# EAGLE library part OPTO4CHANLITEON (library mylib)
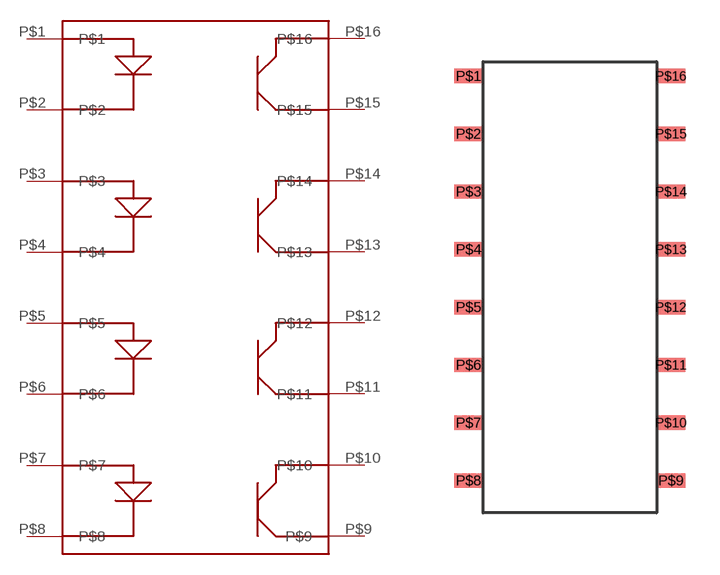
[diagram p3: symbol with the pads of OPTO4CHANLITEON; footprint OPTO4CHANLITEON]

Designator prefix -

## OPTO4CHANLITEONOPTO4CHANLITEON  [OPTO4CHANLITEON]
P$1  P$1
P$2  P$2
P$3  P$3
P$4  P$4
P$5  P$5
P$6  P$6
P$7  P$7
P$8  P$8
P$9  P$9
P$10  P$10
P$11  P$11
P$12  P$12
P$13  P$13
P$14  P$14
P$15  P$15
P$16  P$16

## Footprint OPTO4CHANLITEON (pad centres in mm)
smd 1.27 x 0.635: P$1 -0.635,-0.635; P$2 -0.635,-3.175; P$3 -0.635,-5.715; P$4 -0.635,-8.255; P$5 -0.635,-10.795; P$6 -0.635,-13.335; P$7 -0.635,-15.875; P$8 -0.635,-18.415; P$9 8.255,-18.415; P$10 8.255,-15.875; P$11 8.255,-13.335; P$12 8.255,-10.795; P$13 8.255,-8.255; P$14 8.255,-5.715; P$15 8.255,-3.175; P$16 8.255,-0.635